# Altium integrated library MCP2551-I_SN.IntLib: 1 symbol
Pins are listed as number, name and electrical type; pins without a type are passive.

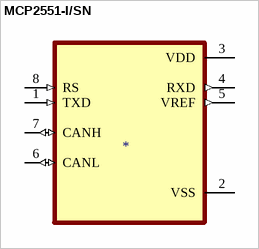
[diagram p0: symbol MCP2551-I/SN]

## MCP2551-I/SN
designator ?
1/1 Transceiver Half CANbus 8-SOIC; MP: MCP2551-I/SN; MF: Microchip; Price: None; SnapEDA_Link: https://www.snapeda.com/parts/MCP2551-I/SN/Microchip/view-part/10929/?ref=snap; Value: *; Availability: Unavailable; Package: SOIC-8 Microchip
footprint SOIC127P599X175-8N
pins: 1 TXD (in), 2 VSS (power), 3 VDD (power), 4 RXD (out), 5 VREF (out), 6 CANL (io), 7 CANH (io), 8 RS (in)